# EAGLE library part MICROSD_SD_MODE (library keves)
MOLEX - 49225-0821 - CONNECTEUR MICRO SD PUSH/PUSH REV Fabricant: MOLEX Code commande Farnell: 1366700 <http://fr.farnell.com/molex/49225-0821/connecteur-micro-sd-push-push-rev/dp/1366700?Ntt=1366700> Référence fabricant: 49225-0821
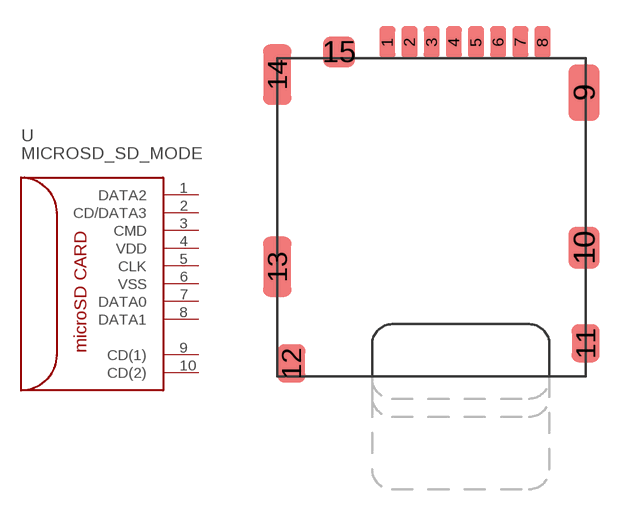
[diagram p10: symbol with the pads of MICRO_SD_CONNECTOR; footprint MICRO_SD_CONNECTOR]

Designator prefix -

## MICROSD_SD_MODE  [MICRO_SD_CONNECTOR]
1  DATA2
2  CD/DATA3
3  CMD
4  VDD
5  CLK
6  VSS
7  DATA0
8  DATA1
9  CD(1)
10  CD(2)

## Footprint MICRO_SD_CONNECTOR (pad centres in mm)
smd 0.8 x 1.6: 1 -2.03,8.2; 2 -0.93,8.2; 3 0.17,8.2; 4 1.27,8.2; 5 2.37,8.2; 6 3.47,8.2; 7 4.57,8.2; 8 5.67,8.2
smd 1.55 x 2.8: 9 7.735,5.7
smd 1.55 x 2.1: 10 7.735,-2
smd 1.4 x 1.9: 11 7.81,-6.75; 12 -6.79,-7.75
smd 1.4 x 3: 13 -7.49,-2.95; 14 -7.49,6.6
smd 1.6 x 1.55: 15 -4.43,7.725